# EAGLE library part VNH5019A-E (library motor)
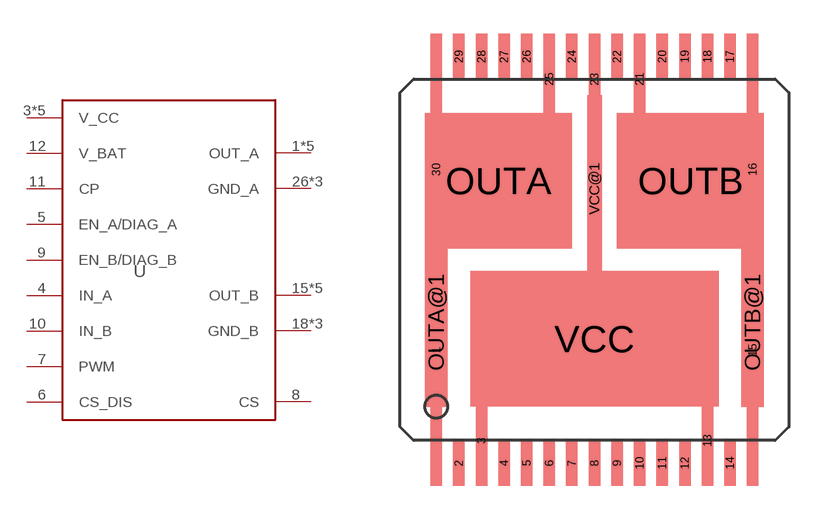
[diagram p1: symbol with the pads of MULTIPOWERSO-30; footprint MULTIPOWERSO-30]

Designator prefix -

## VNH5019A-E  [MULTIPOWERSO-30]
1  OUT_A
3  V_CC
4  IN_A
5  EN_A/DIAG_A
6  CS_DIS
7  PWM
8  CS
9  EN_B/DIAG_B
10  IN_B
11  CP
12  V_BAT
13  V_CC
15  OUT_B
16  OUT_B
18  GND_B
19  GND_B
20  GND_B
21  OUT_B
23  V_CC
25  OUT_A
26  GND_A
27  GND_A
28  GND_A
30  OUT_A
OUTA  OUT_A
OUTA@1  OUT_A
OUTB  OUT_B
OUTB@1  OUT_B
VCC  V_CC
VCC@1  V_CC

## Footprint MULTIPOWERSO-30 (pad centres in mm)
MultiPowerSO-30 Source: http://pdf1.alldatasheet.com/datasheet-pdf/view/84563/STMICROELECTRONICS/VNH3SP30.html
smd 0.508 x 12: 1 -7,-4; 15 7,-4; 16 7,4; 30 -7,4
smd 0.508 x 2: 2 -6,-9; 4 -4,-9; 5 -3,-9; 6 -2,-9; 7 -1,-9; 8 0,-9; 9 1,-9; 10 2,-9; 11 3,-9; 12 4,-9; 14 6,-9; 17 6,9; 18 5,9; 19 4,9; 20 3,9; 22 1,9; 24 -1,9; 26 -3,9; 27 -4,9; 28 -5,9; 29 -6,9
smd 0.508 x 4: 3 -5,-8; 13 5,-8; 21 2,8; 23 0,8; 25 -2,8
smd 6.5 x 6: OUTA -4.25,3.5; OUTB 4.25,3.5
smd 1 x 7.5: OUTA@1 -7,-2.755; OUTB@1 7,-2.755
smd 11 x 6: VCC 0,-3.5
smd 0.65 x 8.3: VCC@1 0,3.145